# EAGLE library part JS202011JCQN (library tiny_stella)
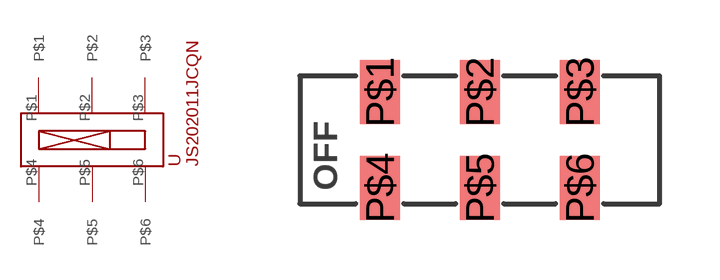
[diagram p4: symbol with the pads of JS202011JCQN; footprint JS202011JCQN]

Designator prefix -

## JS202011JCQN  [JS202011JCQN]
P$1  P$1
P$2  P$2
P$3  P$3
P$4  P$4
P$5  P$5
P$6  P$6

## Footprint JS202011JCQN (pad centres in mm)
smd 1 x 1.6: P$1 -2.5,1.2; P$2 0,1.2; P$3 2.5,1.2; P$4 -2.5,-1.2; P$5 0,-1.2; P$6 2.5,-1.2